# Altium schematic symbol library ArduinoUno_project.SchLib: 32 symbols
Pins are listed as number, name and electrical type; pins without a type are passive.

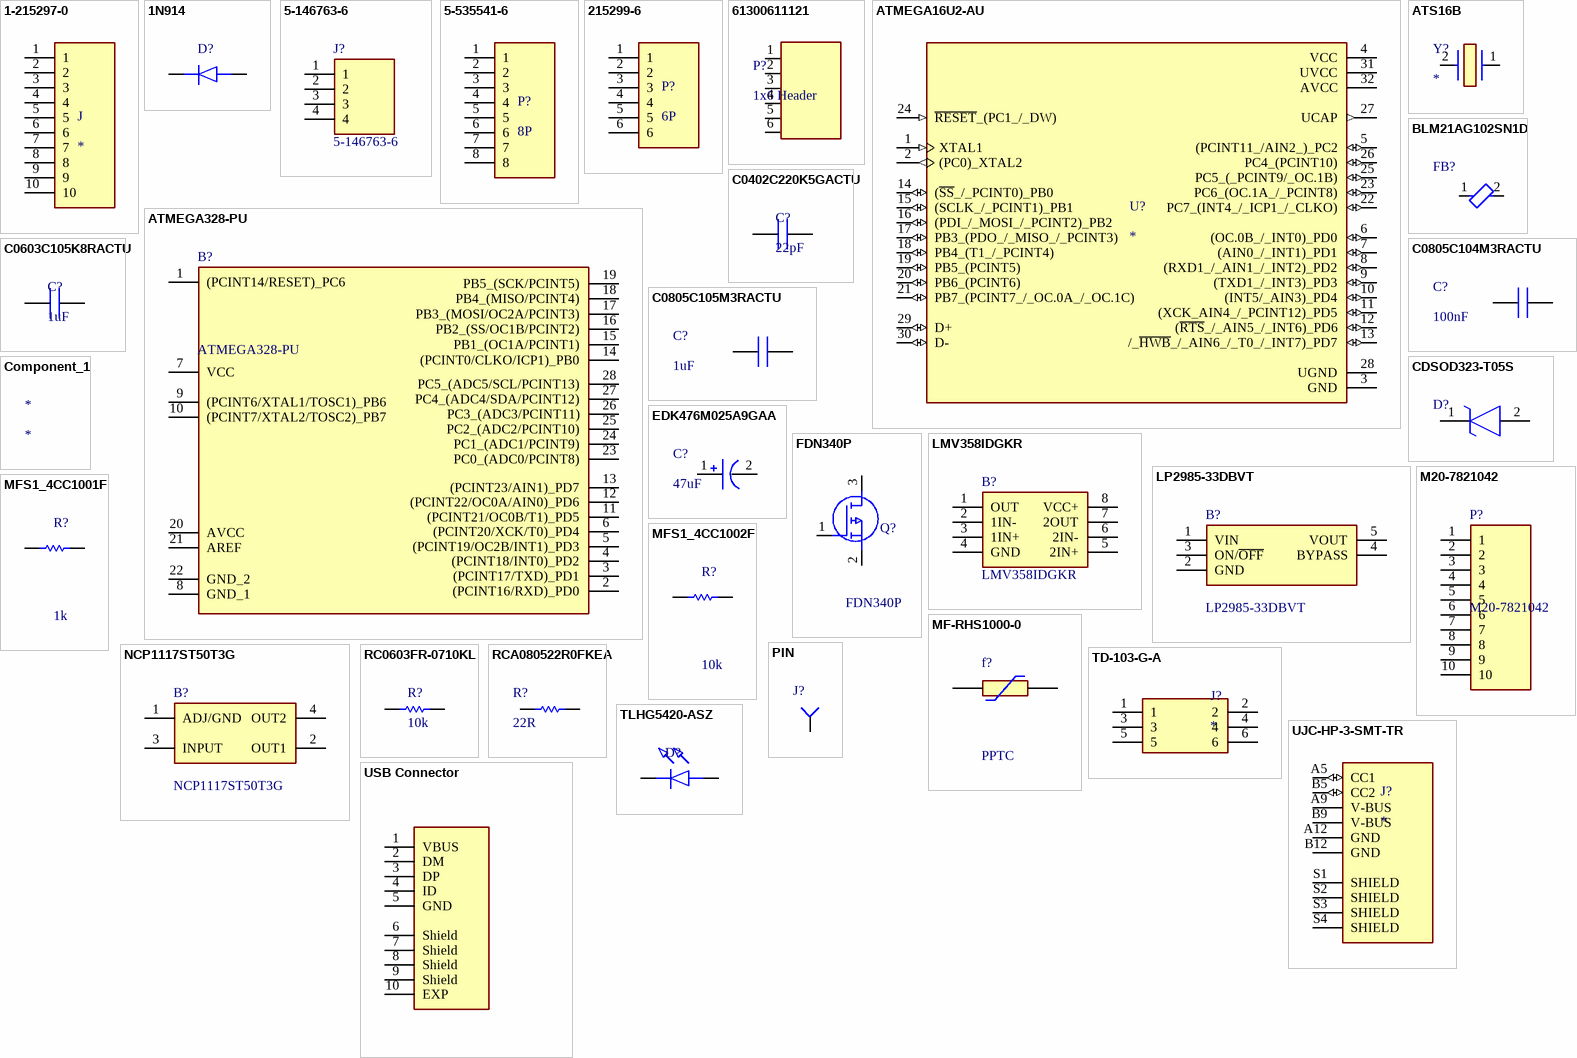
[diagram p0: symbols 1-215297-0 to USB Connector]

## 1-215297-0
designator J
10P HV100 REC CON. TE, 7.0MM; Manufacturer: TE Connectivity; Manufacturer Part Number: 1-215297-0; Price: None; EU_RoHS_Compliance: Compliant; Value: *; TE_purchase_URL: https://www.te.com/usa-en/product-1-215297-0.html?te_bu=Cor&te_type=disp&te_campaign=seda_glo_cor-seda-global-disp-prtnr-fy19-seda-model-bom-cta_sma-317_1&elqCampaignId=32493; Package: None; SnapEDA_Link: https://www.snapeda.com/parts/1-215297-0/TE%20Connectivity%20AMP%20Connectors/view-part/2366147/?ref=snap; Availability: Unavailable
footprint TE_1-215297-0
pins: 1, 2, 3, 4, 5, 6, 7, 8, 9, 10

## 1N914
designator D?  (value not drawn)
Small Signal Diode; Manufacturer: onsemi; Mouser Part Number: 512-1N914; Mouser Price/Stock: https://www.mouser.co.uk/ProductDetail/onsemi-Fairchild/1N914?qs=NSEUUqpg2uCfNuQFcxVZsA%3D%3D; Manufacturer Part Number: 1N914; Datasheet Link: https://www.onsemi.com/pub/Collateral/1N914-D.PDF
footprint DIOAD1068W53L380D172
pins: 1 K, 2 A

## 5-146763-6
designator J?
04 MODII VRT SR CE 100; Manufacturer: TE Connectivity; Geometry.Height: 8.89mm; Mouser Part Number: 571-5-146763-6; Mouser Price/Stock: https://www.mouser.co.uk/ProductDetail/TE-Connectivity/5-146763-6?qs=0lP%252BFeTxe8ZqcqByeRhudw%3D%3D; Manufacturer Part Number: 5-146763-6; Datasheet Link: https://www.te.com/commerce/DocumentDelivery/DDEController?Action=showdoc&DocId=Customer+Drawing%7F146763%7FH4%7Fpdf%7FEnglish%7FENG_CD_146763_H4.pdf%7F5-146763-6
footprint RHDR4W68P0X254_1X4_1016X356X889P
pins: 1, 2, 3, 4

## 5-535541-6
designator P?, comment 8P
Connector Socket Strip RCP 8 POS 2.54mm Solder ST Thru-Hole Gang of Tubes; Manufacturer: TE Connectivity; Manufacturer Part Number: 5-535541-6; SnapEDA_Link: https://www.snapeda.com/parts/5-535541-6/TE%20Connectivity%20AMP%20Connectors/view-part/497141/?ref=snap; Price: None; Availability: Unavailable; Package: None; Value: *
footprint RHDR8W76P0X254_1X8_2032X356X673P
pins: 1, 2, 3, 4, 5, 6, 7, 8

## 215299-6
designator P?, comment 6P
Manufacturer: {'manufacturer': 'TE Connectivity'}; Manufacturer Part Number: 215299-6; Package: None; Value: *; Price: None; Availability: Unavailable
footprint TE_215299-6
pins: 1, 2, 3, 4, 5, 6

## 61300611121
designator P?, comment 1x6 Header
CONN HEADER 6 POS 2.54; Manufacturer: Wurth Electronics; Manufacturer Part Number: 61300611121; Current Rating: 3A; Voltage Rating: 250V; Number of Positions: 6; Gender: Male; Connector Type: Male Pin; Pitch: 0.1inch; Supplier 1: RSComponents; RoHS: Yes; Stock 1: 3940; Pricing 1: 125 = 0,11800, 500 = 0,11400, 2500 = 0,11200, 5000 = 0,10800 (GBP); Mount: Through Hole; Contact Plating: Gold; Contact Material: Copper Alloy,Copper; Housing Material: PBT; Color: Black; Min Operating Temperature: -40°C; Max Operating Temperature: 125°C; Number of Rows: 1; Contact Gender: Male; Packaging: Bulk; Termination: Through Hole; Number of Contacts: 6; Series: WR-PHD; Contact Type: Male Pin; Contact Mating Length: 0.236inch; REACH SVHC: Unknown; Lead Free: Lead Free; RoHS Compliant: Yes; ComponentLink1URL: http://www.mouser.com/ds/2/445/6130xx11121-538006.pdf?src-supplier=Mouser; ComponentLink1Description: http://www.mouser.com/ds/2/445/6130xx11121-538006.pdf?src-supplier=Mouser; ComponentLink2URL: http://www.farnell.com/cad/1737268.pdf?src-supplier=Element14; ComponentLink2Description: http://www.farnell.com/cad/1737268.pdf?src-supplier=Element14; ComponentLink3URL: https://katalog.we-online.de/em/datasheet/6130xx11121.pdf?src-supplier=Digi-Key; ComponentLink3Description: https://katalog.we-online.de/em/datasheet/6130xx11121.pdf?src-supplier=Digi-Key; Supplier Part Number 1: 8281591P
footprint 61300611121 (Pin Header, pitch 2.54 mm, THT, Vertical, single row, 6p)
pins: 1, 2, 3, 4, 5, 6

## ATMEGA16U2-AU
designator U?
AVR AVRÂ® ATmega Microcontroller IC 8-Bit 16MHz 16KB (8K x 16) FLASH 32-TQFP (7x7); Manufacturer: Microchip; Manufacturer Part Number: ATMEGA16U2-AU; Package: TQFP-32 Microchip; Price: None; Check_prices: https://www.snapeda.com/parts/ATMEGA16U2-AU/Microchip/view-part/?ref=eda; Value: *; SnapEDA_Link: https://www.snapeda.com/parts/ATMEGA16U2-AU/Microchip/view-part/?ref=snap; Availability: In Stock; Purchase-URL: https://pricing.snapeda.com/search?q=ATMEGA16U2-AU&ref=eda
footprint QFP80P900X900X120-32N
pins: 1 XTAL1 (in), 2 (PC0)_XTAL2 (out), 3 GND (power), 4 VCC (power), 5 (PCINT11_/AIN2_)_PC2 (io), 6 (OC.0B_/_INT0)_PD0 (io), 7 (AIN0_/_INT1)_PD1 (io), 8 (RXD1_/_AIN1_/_INT2)_PD2 (io), 9 (TXD1_/_INT3)_PD3 (io), 10 (INT5/_AIN3)_PD4 (io), 11 (XCK_AIN4_/_PCINT12)_PD5 (io), 12 (~{RTS}_/_AIN5_/_INT6)_PD6 (io), 13 /_~{HWB}_/_AIN6_/_T0_/_INT7)_PD7 (io), 14 (~{SS}_/_PCINT0)_PB0 (io), 15 (SCLK_/_PCINT1)_PB1 (io), 16 (PDI_/_MOSI_/_PCINT2)_PB2 (io), 17 PB3_(PDO_/_MISO_/_PCINT3) (io), 18 PB4_(T1_/_PCINT4) (io), 19 PB5_(PCINT5) (io), 20 PB6_(PCINT6) (io), 21 PB7_(PCINT7_/_OC.0A_/_OC.1C) (io), 22 PC7_(INT4_/_ICP1_/_CLKO) (io), 23 PC6_(OC.1A_/_PCINT8) (io), 24 ~{RESET}_(PC1_/_DW) (in), 25 PC5_(_PCINT9/_OC.1B) (io), 26 PC4_(PCINT10) (io), 27 UCAP (out), 28 UGND (power), 29 D+ (io), 30 D- (io), 31 UVCC (power), 32 AVCC (power)

## ATMEGA328-PU
designator B?
8-bit Microcontrollers - MCU AVR 32K FLSH 1K EE2K SRAM-20MHz IND; Manufacturer: Microchip; Geometry.Height: 4.572mm; Mouser Part Number: 556-ATMEGA328-PU; Mouser Price/Stock: https://www.mouser.co.uk/ProductDetail/Microchip-Technology/ATMEGA328-PU?qs=lwdSMh1%2FoYJT8tfItQpQtA%3D%3D; Manufacturer Part Number: ATMEGA328-PU; Datasheet Link: https://componentsearchengine.com/Datasheets/1/ATMEGA328-PU.pdf
footprint DIP1016W53P254L3468H457Q28N
pins: 1 (PCINT14/RESET)_PC6, 2 (PCINT16/RXD)_PD0, 3 (PCINT17/TXD)_PD1, 4 (PCINT18/INT0)_PD2, 5 (PCINT19/OC2B/INT1)_PD3, 6 (PCINT20/XCK/T0)_PD4, 7 VCC (power), 8 GND_1, 9 (PCINT6/XTAL1/TOSC1)_PB6, 10 (PCINT7/XTAL2/TOSC2)_PB7, 11 (PCINT21/OC0B/T1)_PD5, 12 (PCINT22/OC0A/AIN0)_PD6, 13 (PCINT23/AIN1)_PD7, 14 (PCINT0/CLKO/ICP1)_PB0, 15 PB1_(OC1A/PCINT1), 16 PB2_(SS/OC1B/PCINT2), 17 PB3_(MOSI/OC2A/PCINT3), 18 PB4_(MISO/PCINT4), 19 PB5_(SCK/PCINT5), 20 AVCC (power), 21 AREF, 22 GND_2, 23 PC0_(ADC0/PCINT8), 24 PC1_(ADC1/PCINT9), 25 PC2_(ADC2/PCINT10), 26 PC3_(ADC3/PCINT11), 27 PC4_(ADC4/SDA/PCINT12), 28 PC5_(ADC5/SCL/PCINT13)

## ATS16B
designator Y?
Crystal or Oscillator; Manufacturer: CTS; Manufacturer Part Number: ATS16B; Datasheet Link: https://componentsearchengine.com/Datasheets/1/ATS16B.pdf; Height: 4.3mm; Mouser Part Number: 774-ATS16B; Mouser Price/Stock: https://www.mouser.co.uk/ProductDetail/CTS-Electronic-Components/ATS16B?qs=tjlMjqRIEYRZOBq8cfzh0Q%3D%3D; Arrow Part Number: ATS16B; Arrow Price/Stock: https://www.arrow.com/en/products/ats16b/cts
footprint ATS16B
pins: 1, 2 CRYSTAL_2

## BLM21AG102SN1D
designator FB?, comment 1 kOhms @ 100MHz  (value not drawn)
MURATA - BLM21AG102SN1D - Ferritperle, 0805 [Metrisch 2012], 1 kohm, 500 mA, Baureihe BLM21A, 0.28 ohm, ± 25% / PN Alternativo: BLM21BD102SN1D; Core Material: Ferrite; Material: Steel,Ferrite; Impedance: 1kR; Max Current Rating: 600mA; Current Rating: 500mA; Max DC Current: 200mA; DC Resistance (DCR): 280mR; Number of Lines: 1; Shielding: Unshielded; Input Capacitance: 850pF; Max Power Dissipation: 3.1W; Rds On Max: 24mR; Drain to Source Voltage (Vdss): 60V; Continuous Drain Current (ID): 20A; Power Dissipation: 19W; Turn-Off Delay Time: 17ns; Turn-On Delay Time: 9ns; Threshold Voltage: 3V; Element Configuration: Single; Gate to Source Voltage (Vgs): 20V; Polarity: N-CHANNEL; Supplier 1: Digi-Key; Supplier Part Number 1: 490-1041-1-ND; Manufacturer: Murata; Manufacturer Part Number: BLM21AG102SN1D; RoHS: Yes; Category: Inductors; Stock 1: 93441; Pricing 1: 1=0,17000, 10=0,14100, 25=0,10960, 50=0,09100, 100=0,07840, 250=0,06272, 500=0,05644, 1000=0,04703 (USD); Case/Package: 0805; Number of Pins: 2; Weight: 0.000194oz; Case Code (Metric): 2012; Case Code (Imperial): 0805; Min Operating Temperature: -55°C; Max Operating Temperature: 125°C; Packaging: Tape and Reel; Frequency: 100MHz; Tolerance: 25%; Package Quantity: 1; Termination: SMD/SMT; Test Frequency: 100MHz; DC Current: 200mA; Military Standard: Not; Number of Circuits: 1; Length: 2mm; Height: 0.85mm; Width: 1.25mm; Depth: 1.25mm; Radiation Hardening: No; REACH SVHC: No SVHC; Lead Free: Lead Free; ComponentLink1URL: https://datasheet.ciiva.com/19454/1845136-19454717.pdf?src-supplier=Jameco; ComponentLink1Description: https://datasheet.ciiva.com/19454/1845136-19454717.pdf?src-supplier=Jameco; ComponentLink2URL: https://datasheet.ciiva.com/18093/getdatasheetpartid-139643-18093010.pdf?src-supplier=Verical; ComponentLink2Description: https://datasheet.ciiva.com/18093/getdatasheetpartid-139643-18093010.pdf?src-supplier=Verical; ComponentLink3URL: https://datasheet.ciiva.com/41449/001172322-da-01-en-drossel-0805-1000r-2-0x1-25mm-4000st-41449636.pdf?src-supplier=Conrad; ComponentLink3Description: https://datasheet.ciiva.com/41449/001172322-da-01-en-drossel-0805-1000r-2-0x1-25mm-4000st-41449636.pdf?src-supplier=Conrad; ComponentLink4URL: https://datasheet.ciiva.com/29347/442432-da-01-en-chip-drossel-0805-1000r-200ma-2-0x1-25mm-29347996.pdf?src-supplier=Conrad; ComponentLink4Description: https://datasheet.ciiva.com/29347/442432-da-01-en-chip-drossel-0805-1000r-200ma-2-0x1-25mm-29347996.pdf?src-supplier=Conrad; ComponentLink5URL: https://datasheet.ciiva.com/25903/l0110s0100blm21a-25903493.pdf?src-supplier=Avnet+Europe; ComponentLink5Description: https://datasheet.ciiva.com/25903/l0110s0100blm21a-25903493.pdf?src-supplier=Avnet+Europe; ComponentLink6URL: https://datasheet.ciiva.com/3081/l0110s0100blm21a-3081640.pdf?src-supplier=Avnet; ComponentLink6Description: https://datasheet.ciiva.com/3081/l0110s0100blm21a-3081640.pdf?src-supplier=Avnet; ComponentLink7URL: https://datasheet.ciiva.com/6212/l0110s0100blm21a-6212345.pdf?src-supplier=Digi-Key; ComponentLink7Description: https://datasheet.ciiva.com/6212/l0110s0100blm21a-6212345.pdf?src-supplier=Digi-Key; ComponentLink8URL: https://datasheet.ciiva.com/6212/l0110s0100blm21a-6212347.pdf?src-supplier=Digi-Key; ComponentLink8Description: https://datasheet.ciiva.com/6212/l0110s0100blm21a-6212347.pdf?src-supplier=Digi-Key; ComponentLink9URL: https://datasheet.ciiva.com/16286/l0110s0100blm21a-16286461.pdf?src-supplier=Future+Electronics; ComponentLink9Description: https://datasheet.ciiva.com/16286/l0110s0100blm21a-16286461.pdf?src-supplier=Future+Electronics; ComponentLink10URL: https://datasheet.ciiva.com/6212/l0110s0100blm21a-6212318.pdf?src-supplier=Digi-Key; ComponentLink10Description: https://datasheet.ciiva.com/6212/l0110s0100blm21a-6212318.pdf?src-supplier=Digi-Key; ComponentLink11URL: https://datasheet.ciiva.com/3082/l0110s0100blm21a-3082728.pdf?src-supplier=Avnet; ComponentLink11Description: https://datasheet.ciiva.com/3082/l0110s0100blm21a-3082728.pdf?src-supplier=Avnet; ComponentLink12URL: https://datasheet.ciiva.com/8021/l0110s0100blm21a-8021548.pdf?src-supplier=Element14; ComponentLink12Description: https://datasheet.ciiva.com/8021/l0110s0100blm21a-8021548.pdf?src-supplier=Element14; ComponentLink13URL: https://datasheet.ciiva.com/8021/l0110s0100blm21a-8021550.pdf?src-supplier=Element14; ComponentLink13Description: https://datasheet.ciiva.com/8021/l0110s0100blm21a-8021550.pdf?src-supplier=Element14; Supplier 2: Digi-Key; Pricing 2: 1 = 0,93000, 10 = 0,82200, 100 = 0,63010, 500 = 0,49808 (USD); Series: -; Number of Elements: 1; Drain to Source Breakdown Voltage: 60V; Drain to Source Resistance: 24mR; RoHS Compliant: Yes; ComponentLink14URL: https://datasheet.ciiva.com/6380/nttfs5826nl-d-6380502.pdf?src-supplier=Digi-Key; ComponentLink14Description: https://datasheet.ciiva.com/6380/nttfs5826nl-d-6380502.pdf?src-supplier=Digi-Key; ComponentLink15URL: https://datasheet.ciiva.com/11166/nttfs5826nl-d-11166227.pdf?src-supplier=Avnet; ComponentLink15Description: https://datasheet.ciiva.com/11166/nttfs5826nl-d-11166227.pdf?src-supplier=Avnet; ComponentLink16URL: https://datasheet.ciiva.com/26145/nttfs5826nl-d-26145731.pdf?src-supplier=Avnet+Europe; ComponentLink16Description: https://datasheet.ciiva.com/26145/nttfs5826nl-d-26145731.pdf?src-supplier=Avnet+Europe; ComponentLink17URL: https://datasheet.ciiva.com/4438/nttfs5826nl-d-97426-4438348.pdf?src-supplier=Mouser; ComponentLink17Description: https://datasheet.ciiva.com/4438/nttfs5826nl-d-97426-4438348.pdf?src-supplier=Mouser; ComponentLink18URL: https://datasheet.ciiva.com/30480/0900766b8120607b-30480146.pdf?src-supplier=RSComponents; ComponentLink18Description: https://datasheet.ciiva.com/30480/0900766b8120607b-30480146.pdf?src-supplier=RSComponents; ComponentLink19URL: https://datasheet.ciiva.com/6380/nttfs5826nl-d-6380508.pdf?src-supplier=Digi-Key; ComponentLink19Description: https://datasheet.ciiva.com/6380/nttfs5826nl-d-6380508.pdf?src-supplier=Digi-Key
footprint BLM21
pins: 1, 2

## C0402C220K5GACTU
designator C?, comment 22pF
CAP CER 22PF 50V C0G/NP0 0402; Manufacturer: KEMET; Manufacturer Part Number: C0402C220K5GACTU; Dielectric Material: Ceramic; Tolerance: 10%; Dielectric: C0G; Dissipation Factor: 0.1%; Supplier 1: Digi-Key; Supplier Part Number 1: 399-7775-1-ND; RoHS: Yes; Category: Ceramic Capacitors; Stock 1: 2121934; Pricing 1: 1=0,10000, 10=0,02100, 50=0,01160, 100=0,00950, 500=0,00678, 1000=0,00532, 2500=0,00484, 5000=0,00445 (USD); Mount: Surface Mount; Case/Package: 0402; Case Code (Metric): 1005; Case Code (Imperial): 0402; Min Operating Temperature: -55°C; Max Operating Temperature: 125°C; Package Quantity: 1; Capacitance: 22pF; Voltage Rating: 50V; Packaging: Tape and Reel; Voltage Rating (DC): 50V; Termination: SMD/SMT; Length: 1mm; Height: 0.5mm; Width: 0.02inch; Thickness: 0.022inch; Lead Pitch: 0.3mm; Depth: 0.5mm; Radiation Hardening: No; REACH SVHC: No SVHC; Lead Free: Lead Free; ComponentLink1URL: https://datasheet.ciiva.com/18192/getdatasheetpartid-362104-18192458.pdf?src-supplier=Verical; ComponentLink1Description: https://datasheet.ciiva.com/18192/getdatasheetpartid-362104-18192458.pdf?src-supplier=Verical; ComponentLink2URL: https://datasheet.ciiva.com/6874/1828801-6874332.pdf?src-supplier=Newark; ComponentLink2Description: https://datasheet.ciiva.com/6874/1828801-6874332.pdf?src-supplier=Newark; ComponentLink3URL: https://datasheet.ciiva.com/5423/kem-c1003-c0g-smd-356956-5423869.pdf?src-supplier=Mouser; ComponentLink3Description: https://datasheet.ciiva.com/5423/kem-c1003-c0g-smd-356956-5423869.pdf?src-supplier=Mouser
footprint C0402
pins: 1, 2

## C0603C105K8RACTU
designator C?, comment 1uF
1µF ±10% 10V Ceramic Capacitor X7R 0603 (1608 Metric); Manufacturer: KEMET; Manufacturer Part Number: C0603C105K8RACTU; Dissipation Factor: 5%; Supplier 1: Digi-Key; Supplier Part Number 1: 399-11133-1-ND; RoHS: Yes; Category: Ceramic Capacitors; Stock 1: 357758; Pricing 1: 1=0,10000, 10=0,06100, 50=0,03340, 100=0,02730, 500=0,01948, 1000=0,01531 (USD); Mount: Surface Mount; Case/Package: 0603; Case Code (Imperial): 0603; Case Code (Metric): 1608; Contact Plating: Tin,Matte; Dielectric Material: Ceramic; Min Operating Temperature: -55°C; Max Operating Temperature: 125°C; Packaging: Tape and Reel; Capacitance: 1uF; Package Quantity: 1; Voltage Rating: 10V; Voltage Rating (DC): 10V; Tolerance: 10%; Dielectric: X7R; Termination: SMD/SMT; Length: 1.6mm; Height: 0.8mm; Width: 0.8mm; Thickness: 0.035inch; Depth: 0.8mm; Radiation Hardening: No; REACH SVHC: No SVHC; ComponentLink1URL: https://datasheet.ciiva.com/18192/getdatasheetpartid-212378-18192743.pdf?src-supplier=Verical; ComponentLink1Description: https://datasheet.ciiva.com/18192/getdatasheetpartid-212378-18192743.pdf?src-supplier=Verical
footprint C0603 (Footprint not found)
pins: 1, 2

## C0805C104M3RACTU
designator C?, comment 100nF
Cap Ceramic 0.1uF 25V X7R 20% SMD 0805 125°C Paper T/R; Manufacturer: KEMET; Manufacturer Part Number: C0805C104M3RACTU; Dissipation Factor: 5%; Supplier 1: Digi-Key; RoHS: Yes; Stock 1: 190801; Pricing 1: 1 = 0,10000, 10 = 0,06200, 50 = 0,03360, 100 = 0,02750, 500 = 0,01964, 1000 = 0,01543 (USD); Mount: Surface Mount; Case/Package: 0805; Case Code (Metric): 2012; Case Code (Imperial): 0805; Dielectric Material: Ceramic; Min Operating Temperature: -55°C; Max Operating Temperature: 125°C; Package Quantity: 1; Capacitance: 100nF; Voltage Rating: 25V; Tolerance: 20%; Packaging: Tape and Reel; Voltage Rating (DC): 25V; Dielectric: X7R; Termination: SMD/SMT; Voltage: 25V; Series: C0805C; Construction: Flat; Length: 2mm; Width: 0.049inch; Height: 0.9mm; Thickness: 0.035inch; Lead Pitch: 0.75mm; Depth: 1.25mm; Radiation Hardening: No; REACH SVHC: No SVHC; ComponentLink1URL: http://www.farnell.com/datasheets/2746330.pdf?src-supplier=Farnell; ComponentLink1Description: http://www.farnell.com/datasheets/2746330.pdf?src-supplier=Farnell; ComponentLink2URL: https://www.alliedelec.com/m/d/6f3b5eb83d09db50ed28bdc730567b33.pdf?src-supplier=Allied+Electronics; ComponentLink2Description: https://www.alliedelec.com/m/d/6f3b5eb83d09db50ed28bdc730567b33.pdf?src-supplier=Allied+Electronics; ComponentLink3URL: http://uk.rs-online.com/webdocs/13da/0900766b813daa05.pdf?src-supplier=RSComponents; ComponentLink3Description: http://uk.rs-online.com/webdocs/13da/0900766b813daa05.pdf?src-supplier=RSComponents; ComponentLink4URL: http://uk.rs-online.com/webdocs/13da/0900766b813da9ff.pdf?src-supplier=RSComponents; ComponentLink4Description: http://uk.rs-online.com/webdocs/13da/0900766b813da9ff.pdf?src-supplier=RSComponents; ComponentLink5URL: https://www.alliedelec.com/m/d/e7aa2b5497e2375e4ffc0e8be19e16e2.pdf?src-supplier=Allied+Electronics; ComponentLink5Description: https://www.alliedelec.com/m/d/e7aa2b5497e2375e4ffc0e8be19e16e2.pdf?src-supplier=Allied+Electronics; ComponentLink6URL: http://www.jameco.com/Jameco/Products/ProdDS/1566487.pdf?src-supplier=Jameco; ComponentLink6Description: http://www.jameco.com/Jameco/Products/ProdDS/1566487.pdf?src-supplier=Jameco; ComponentLink7URL: http://www.mouser.com/ds/2/212/KEM_C1002_X7R_SMD-1102033.pdf?src-supplier=Mouser; ComponentLink7Description: http://www.mouser.com/ds/2/212/KEM_C1002_X7R_SMD-1102033.pdf?src-supplier=Mouser; ComponentLink8URL: http://components.arrow.com/part/dataview/2091097S3491315N7429?src-supplier=Arrow+Electronics; ComponentLink8Description: http://components.arrow.com/part/dataview/2091097S3491315N7429?src-supplier=Arrow+Electronics; ComponentLink9URL: http://components.arrow.com/part/dataview/0323_00178100?src-supplier=Arrow+Europe; ComponentLink9Description: http://components.arrow.com/part/dataview/0323_00178100?src-supplier=Arrow+Europe; ComponentLink10URL: https://api.kemet.com/component-edge/download/datasheet/C0805C104M3RACTU.pdf?src-supplier=Digi-Key; ComponentLink10Description: https://api.kemet.com/component-edge/download/datasheet/C0805C104M3RACTU.pdf?src-supplier=Digi-Key; ComponentLink11URL: http://www.farnell.com/datasheets/2746330.pdf?src-supplier=Newark; ComponentLink11Description: http://www.farnell.com/datasheets/2746330.pdf?src-supplier=Newark; ComponentLink12URL: http://www.farnell.com/datasheets/1828800.pdf?src-supplier=Newark; ComponentLink12Description: http://www.farnell.com/datasheets/1828800.pdf?src-supplier=Newark; ComponentLink13URL: http://capacitoredge.kemet.com/capedge2/DataSheet?pn=C0805C104M3RACTU&src-supplier=Avnet; ComponentLink13Description: http://capacitoredge.kemet.com/capedge2/DataSheet?pn=C0805C104M3RACTU&src-supplier=Avnet; ComponentLink14URL: http://www.farnell.com/datasheets/2746330.pdf?src-supplier=Element14; ComponentLink14Description: http://www.farnell.com/datasheets/2746330.pdf?src-supplier=Element14; Supplier Part Number 1: 399-C0805C104M3RAC7800CT-ND
footprint C0805 (Footprint not found)
pins: 1, 2

## C0805C105M3RACTU
designator C?, comment 1uF
Multilayer Ceramic Capacitors MLCC - SMD/SMT 25V 1uF X7R 0805 20%; Manufacturer: KEMET; Manufacturer Part Number: C0805C104M3RACTU; Dissipation Factor: 5%; Supplier 1: Digi-Key; RoHS: Yes; Stock 1: 190801; Pricing 1: 1 = 0,10000, 10 = 0,06200, 50 = 0,03360, 100 = 0,02750, 500 = 0,01964, 1000 = 0,01543 (USD); Mount: Surface Mount; Case/Package: 0805; Case Code (Metric): 2012; Case Code (Imperial): 0805; Dielectric Material: Ceramic; Min Operating Temperature: -55°C; Max Operating Temperature: 125°C; Package Quantity: 1; Capacitance: 1uF; Voltage Rating: 25V; Tolerance: 20%; Packaging: Tape and Reel; Voltage Rating (DC): 25V; Dielectric: X7R; Termination: SMD/SMT; Voltage: 25V; Series: C0805C; Construction: Flat; Length: 2mm; Width: 0.049inch; Height: 0.9mm; Thickness: 0.035inch; Lead Pitch: 0.75mm; Depth: 1.25mm; Radiation Hardening: No; REACH SVHC: No SVHC; ComponentLink1URL: http://www.farnell.com/datasheets/2746330.pdf?src-supplier=Farnell; ComponentLink1Description: http://www.farnell.com/datasheets/2746330.pdf?src-supplier=Farnell; ComponentLink2URL: https://www.alliedelec.com/m/d/6f3b5eb83d09db50ed28bdc730567b33.pdf?src-supplier=Allied+Electronics; ComponentLink2Description: https://www.alliedelec.com/m/d/6f3b5eb83d09db50ed28bdc730567b33.pdf?src-supplier=Allied+Electronics; ComponentLink3URL: http://uk.rs-online.com/webdocs/13da/0900766b813daa05.pdf?src-supplier=RSComponents; ComponentLink3Description: http://uk.rs-online.com/webdocs/13da/0900766b813daa05.pdf?src-supplier=RSComponents; ComponentLink4URL: http://uk.rs-online.com/webdocs/13da/0900766b813da9ff.pdf?src-supplier=RSComponents; ComponentLink4Description: http://uk.rs-online.com/webdocs/13da/0900766b813da9ff.pdf?src-supplier=RSComponents; ComponentLink5URL: https://www.alliedelec.com/m/d/e7aa2b5497e2375e4ffc0e8be19e16e2.pdf?src-supplier=Allied+Electronics; ComponentLink5Description: https://www.alliedelec.com/m/d/e7aa2b5497e2375e4ffc0e8be19e16e2.pdf?src-supplier=Allied+Electronics; ComponentLink6URL: http://www.jameco.com/Jameco/Products/ProdDS/1566487.pdf?src-supplier=Jameco; ComponentLink6Description: http://www.jameco.com/Jameco/Products/ProdDS/1566487.pdf?src-supplier=Jameco; ComponentLink7URL: http://www.mouser.com/ds/2/212/KEM_C1002_X7R_SMD-1102033.pdf?src-supplier=Mouser; ComponentLink7Description: http://www.mouser.com/ds/2/212/KEM_C1002_X7R_SMD-1102033.pdf?src-supplier=Mouser; ComponentLink8URL: http://components.arrow.com/part/dataview/2091097S3491315N7429?src-supplier=Arrow+Electronics; ComponentLink8Description: http://components.arrow.com/part/dataview/2091097S3491315N7429?src-supplier=Arrow+Electronics; ComponentLink9URL: http://components.arrow.com/part/dataview/0323_00178100?src-supplier=Arrow+Europe; ComponentLink9Description: http://components.arrow.com/part/dataview/0323_00178100?src-supplier=Arrow+Europe; ComponentLink10URL: https://api.kemet.com/component-edge/download/datasheet/C0805C104M3RACTU.pdf?src-supplier=Digi-Key; ComponentLink10Description: https://api.kemet.com/component-edge/download/datasheet/C0805C104M3RACTU.pdf?src-supplier=Digi-Key; ComponentLink11URL: http://www.farnell.com/datasheets/2746330.pdf?src-supplier=Newark; ComponentLink11Description: http://www.farnell.com/datasheets/2746330.pdf?src-supplier=Newark; ComponentLink12URL: http://www.farnell.com/datasheets/1828800.pdf?src-supplier=Newark; ComponentLink12Description: http://www.farnell.com/datasheets/1828800.pdf?src-supplier=Newark; ComponentLink13URL: http://capacitoredge.kemet.com/capedge2/DataSheet?pn=C0805C104M3RACTU&src-supplier=Avnet; ComponentLink13Description: http://capacitoredge.kemet.com/capedge2/DataSheet?pn=C0805C104M3RACTU&src-supplier=Avnet; ComponentLink14URL: http://www.farnell.com/datasheets/2746330.pdf?src-supplier=Element14; ComponentLink14Description: http://www.farnell.com/datasheets/2746330.pdf?src-supplier=Element14; Supplier Part Number 1: 399-C0805C104M3RAC7800CT-ND
footprint C0805 (Footprint not found)
pins: 1, 2

## CDSOD323-T05S
designator D?  (value not drawn)
TVS Diode (Uni-directional); Manufacturer: Bourns; Manufacturer Part Number: CDSOD323-T05S; Datasheet Link: http://www.bourns.com/docs/Product-Datasheets/CDSOD323-TxxSC.pdf; Height: 1.14mm; Mouser Part Number: 652-CDSOD323-T05S; Mouser Price/Stock: https://www.mouser.co.uk/ProductDetail/Bourns/CDSOD323-T05S?qs=6S5Watp5UnKwEEYVMBfMmA%3D%3D; Arrow Part Number: CDSOD323-T05S; Arrow Price/Stock: https://www.arrow.com/en/products/cdsod323-t05s/bourns?region=nac
footprint SOD2513X114N
pins: 1 K, 2 A

## Component_1
designator *

## EDK476M025A9GAA
designator C?, comment 47uF
Cap Aluminum 47uF 25V 20% (6.3 X 5.4mm) SMD 70mA 2000 hr 85°C T/R -    PN Alternativo : EDK476M025A9GAA; Manufacturer: KEMET; Life (Hours): 2000Hour; Supplier 1: Mouser; Manufacturer Part Number: EDK476M025A9GAA; RoHS: Yes; Stock 1: 8213; Pricing 1: 1 = 0,39000, 10 = 0,19000, 50 = 0,19000, 100 = 0,16300, 1000 = 0,10200, 10000 = 0,08100 (USD); Mount: Surface Mount,PCB; Case/Package: Radial; Min Operating Temperature: -40°C; Max Operating Temperature: 85°C; Capacitance: 47uF; Tolerance: 20%; Ripple Current: 70mA; Voltage Rating: 25V; Packaging: Tape and Reel; Package Quantity: 1; Voltage Rating (DC): 25V; Termination: SMD/SMT; Series: EDK; Construction: Cylindrical; Ripple Current (AC): 70mA; Diameter: 6.3mm; Length: 5.5mm; Height: 5.4mm; Height - Seated (Max): 0.217inch; Radiation Hardening: No; RoHS Compliant: Yes; REACH SVHC: No SVHC; ComponentLink1URL: https://datasheet.ciiva.com/5365/kem-a4001-edk-535350-5365071.pdf?src-supplier=Mouser; ComponentLink1Description: https://datasheet.ciiva.com/5365/kem-a4001-edk-535350-5365071.pdf?src-supplier=Mouser; Supplier Part Number 1: 80-EDK476M025A9GAA
footprint CAPAE660X565N
pins: 1, 2

## FDN340P
designator Q?
Trans MOSFET P-CH 20V 2A 3-Pin SuperSOT; Manufacturer: onsemi; Geometry.Height: 1.12mm; Mouser Part Number: 512-FDN340P; Mouser Price/Stock: https://www.mouser.co.uk/ProductDetail/onsemi-Fairchild/FDN340P?qs=AMp2PTjoga9dhzFXRaqTZw%3D%3D; Manufacturer Part Number: FDN340P; Datasheet Link: https://www.onsemi.com/pub/Collateral/FDN340P-D.PDF
footprint SOT95P237X112-3N
pins: 1 G, 2 S, 3 D

## LMV358IDGKR
designator B?
OP Amp Dual GP R-R O/P 5.5V 8-Pin MSOP Texas Instruments LMV358IDGKR, Dual Op Amp, 1MHz CMOS, Rail to Rail, 3 V, 5 V, 8-Pin MSOP; Geometry.Height: 1.1mm; Mouser Part Number: 595-LMV358IDGKR; Mouser Price/Stock: https://www.mouser.co.uk/ProductDetail/Texas-Instruments/LMV358IDGKR?qs=rgxfVHSNRPXxzk3brtXqQw%3D%3D; Manufacturer: Texas Instruments; Manufacturer Part Number: LMV358IDGKR; Datasheet Link: http://www.ti.com/lit/ds/symlink/lmv358.pdf
footprint SOP65P490X110-8N
pins: 1 OUT, 2 1IN-, 3 1IN+, 4 GND, 5 2IN+, 6 2IN-, 7 2OUT, 8 VCC+

## LP2985-33DBVT
designator B?
150-mA LOW-NOISE LOW-DROPOUT REGULATOR WITH SHUTDOWN; Manufacturer: Texas Instruments; Geometry.Height: 1.45mm; Mouser Part Number: 595-LP2985-33DBVT; Mouser Price/Stock: https://www.mouser.co.uk/ProductDetail/Texas-Instruments/LP2985-33DBVT?qs=paYhMW8qfivCywxvLCGbYQ%3D%3D; Manufacturer Part Number: LP2985-33DBVT; Datasheet Link: http://www.ti.com/lit/gpn/lp2985
footprint SOT95P280X145-5N
pins: 1 VIN, 2 GND, 3 ON/~{OFF}, 4 BYPASS, 5 VOUT

## M20-7821042
designator P?
2.54mm (0.1") Pitch SIL Vertical Throughboard Socket Assembly, selective gold + tin, 10 contacts; Manufacturer: Harwin; Geometry.Height: 8.65mm; Mouser Part Number: 855-M20-7821042; Mouser Price/Stock: https://www.mouser.co.uk/ProductDetail/Harwin/M20-7821042?qs=Jph8NoUxIfUg6RlpQXBvqA%3D%3D; Manufacturer Part Number: M20-7821042; Datasheet Link: https://cdn.harwin.com/pdfs/M20-782.pdf
footprint SHDR10W70P0X254_1X10_2580X250X865P
pins: 1, 2, 3, 4, 5, 6, 7, 8, 9, 10

## MF-RHS1000-0
designator f?, comment PPTC
PTC 10.0A 16V RADIAL LEADED HI-TEMP; Manufacturer: Bourns; Manufacturer Part Number: MF-RHS1000-0; Geometry.Height: 27.9mm; Mouser Part Number: 652-MF-RHS1000-0; Mouser Price/Stock: https://www.mouser.co.uk/ProductDetail/Bourns/MF-RHS1000-0?qs=mELouGlnn3f3cOBjSincOA%3D%3D; Datasheet Link: *
footprint MFRHS10000
pins: 1, 2

## MFS1_4CC1001F
designator R?, comment 1k
KOA Axial Metal Film Resistor 1k +/-1% 0.25W +/-50ppm/C; Manufacturer: KOA Speer; Manufacturer Part Number: MFS1/4CC1001F; Mouser Part Number: 660-MFS1/4CC1001F; Mouser Price/Stock: https://www.mouser.co.uk/ProductDetail/KOA-Speer/MFS1-4CC1001F?qs=W1HJaynCbQwggh46CLL3yw%3D%3D; Datasheet Link: https://www.koaspeer.com/catimages/Products/MF-MFS-RK/MF-MFS-RK.pdf
footprint RESAD1075W45L335D185
pins: 1, 2

## MFS1_4CC1002F
designator R?, comment 10k
Fixed Resistor, Metal Film, 0.25W, 10000ohm, 250V, 1% +/-Tol, 50ppm/Cel, Through Hole Mount; Manufacturer: KOA Speer; Manufacturer Part Number: MFS1/4CC1001F; Mouser Part Number: 660-MFS1/4CC1001F; Mouser Price/Stock: https://www.mouser.co.uk/ProductDetail/KOA-Speer/MFS1-4CC1001F?qs=W1HJaynCbQwggh46CLL3yw%3D%3D; Datasheet Link: https://www.koaspeer.com/catimages/Products/MF-MFS-RK/MF-MFS-RK.pdf
footprint RESAD1075W45L335D185
pins: 1, 2

## NCP1117ST50T3G
designator B?
ON SEMICONDUCTOR - NCP1117ST50T3G - LDO, REG, 20VIN, 1A, 5V, 1%, SOT223-3; Manufacturer: onsemi; Geometry.Height: 1.8mm; Mouser Part Number: 863-NCP1117ST50T3G; Mouser Price/Stock: https://www.mouser.co.uk/ProductDetail/onsemi/NCP1117ST50T3G?qs=Gev%252BmEvV0ib6dijy6U0dhQ%3D%3D; Manufacturer Part Number: NCP1117ST50T3G; Datasheet Link: http://www.onsemi.com/pub/Collateral/NCP1117-D.PDF
footprint SOT230P700X180-4N
pins: 1 ADJ/GND, 2 OUT1, 3 INPUT, 4 OUT2

## PIN
designator J?, comment Function  (value not drawn)  (no BOM)
footprint Pin - 1 (Test point pad)
pins: 1

## RC0603FR-0710KL
designator R?, comment 10k
10 kOhms ±1% 0.1W, 1/10W Chip Resistor 0603 (1608 Metric)  Thick Film; Manufacturer: Yageo; Manufacturer Part Number: RC0603FR-0710KL; Resistance: 10kR; Temperature Coefficient: 100ppm/°C; Voltage Rating (DC): 50V; Power Rating: 100mW; Voltage Rating: 75V; Supplier 1: Digi-Key; RoHS: Yes; Stock 1: 18983194; Pricing 1: 1 = 0,10000, 10 = 0,02100, 100 = 0,00850, 1000 = 0,00382, 2500 = 0,00331 (USD); Case/Package: 0603; Number of Pins: 2; Weight: 7.1E-05oz; Case Code (Imperial): 0603; Case Code (Metric): 1608; Min Operating Temperature: -55°C; Max Operating Temperature: 155°C; Packaging: Tape and Reel; Tolerance: 1%; Resistor Type: Thick Film; Termination: SMD/SMT; Length: 1.6mm; Height: 0.45mm; Width: 0.8mm; Depth: 0.8mm; Lead Pitch: 0.3mm; REACH SVHC: No SVHC; Lead Free: Lead Free; Military Standard: Not; ComponentLink1URL: https://datasheet.ciiva.com/7660/38590-7660789.pdf?src-supplier=Element14; ComponentLink1Description: https://datasheet.ciiva.com/7660/38590-7660789.pdf?src-supplier=Element14; ComponentLink2URL: https://datasheet.ciiva.com/15189/getdatasheetpartid-409289-15189591.pdf?src-supplier=Verical; ComponentLink2Description: https://datasheet.ciiva.com/15189/getdatasheetpartid-409289-15189591.pdf?src-supplier=Verical; ComponentLink3URL: https://datasheet.ciiva.com/46440/1868787-46440891.pdf?src-supplier=Element14; ComponentLink3Description: https://datasheet.ciiva.com/46440/1868787-46440891.pdf?src-supplier=Element14; ComponentLink4URL: https://datasheet.ciiva.com/7983/443971-7983596.pdf?src-supplier=Element14; ComponentLink4Description: https://datasheet.ciiva.com/7983/443971-7983596.pdf?src-supplier=Element14; ComponentLink5URL: https://datasheet.ciiva.com/7746/1738695-7746239.pdf?src-supplier=Element14; ComponentLink5Description: https://datasheet.ciiva.com/7746/1738695-7746239.pdf?src-supplier=Element14; ComponentLink6URL: https://datasheet.ciiva.com/22747/443971-22747519.pdf?src-supplier=Element14; ComponentLink6Description: https://datasheet.ciiva.com/22747/443971-22747519.pdf?src-supplier=Element14; Supplier Part Number 1: 311-10.0KHRCT-ND
footprint RC0603 (Footprint not found)
pins: 1, 2

## RCA080522R0FKEA
designator R?, comment 22R
Thick Film Resistors - SMD 22ohms 1% 100ppm; Manufacturer: Vishay; Manufacturer Part Number: RCA080522R0FKEA; Datasheet Link: https://www.mouser.se/datasheet/2/427/rcae3-1761931.pdf; Height: 0.5mm; Mouser Part Number: 71-RCA080522R0FKEA; Mouser Price/Stock: https://www.mouser.co.uk/ProductDetail/Vishay-Draloric/RCA080522R0FKEA?qs=AvgxZrxb8y2flqwx8oksMg%3D%3D
footprint R0805
pins: 1, 2

## TD-103-G-A
designator J?
Connecteur Embase Trou traversant 6 positions 0,100po (2,54mm); Manufacturer: Samtec Inc.; Manufacturer Part Number: TD-103-G-A; SnapEDA_Link: https://www.snapeda.com/parts/TD-103-G-A/Samtec+Inc./view-part/?ref=snap; Package: None; Value: *; Check_prices: https://www.snapeda.com/parts/TD-103-G-A/Samtec+Inc./view-part/?ref=eda
footprint SAMTEC_TD-103-G-A
pins: 1, 2, 3, 4, 5, 6

## TLHG5420-ASZ
designator D?  (value not drawn)
Standard LEDs - Through Hole 5MM LED GREEN TINT. DIFFused with Standoff; Manufacturer: Vishay; Geometry.Height: 12.8mm; Mouser Part Number: 78-TLHG5420-ASZ; Mouser Price/Stock: https://www.mouser.co.uk/ProductDetail/Vishay-Siliconix/TLHG5420-ASZ?qs=M%2FWrVUahkW9Iv5EBNpgqMA%3D%3D; Manufacturer Part Number: TLHG5420-ASZ; Datasheet Link: https://www.vishay.com/docs/86335/tlhg542_tlhg642.pdf
footprint TLHG5420ASZ
pins: 1 K, 2 A

## UJC-HP-3-SMT-TR
designator J?
Type C, 3 A, Right Angle, Surface Mount (SMT), Power-Only USB Receptacle; Manufacturer Part Number: UJC-HP-3-SMT-TR; Value: *; Availability: Unavailable; Price: None; Package: None
footprint CUI_UJC-HP-3-SMT-TR
pins: A5 CC1 (io), A9 V-BUS (power), A12 GND (power), B5 CC2 (io), B9 V-BUS (power), B12 GND (power), S1 SHIELD, S2 SHIELD, S3 SHIELD, S4 SHIELD

## USB Connector
designator J?, comment ZX62RD-AB-5P8(30)
CONN RCPT USB2.0 MICRO AB SMD RA; Manufacturer: Hirose Connector; Number of Contacts: 5; Gender: Receptacle; Connector Type: USB; Packaging: Tape and Reel; Contact Material: Copper Alloy; Mount: Surface Mount; USB Standard: USB 2.0; RoHS Compliant: Yes; Contact Plating: Gold; Orientation: Right Angle; Lead Free: Lead Free; Manufacturer Part Number: ZX62RD-AB-5P8(30)
footprint FP-ZX62RD-AB-5P8_30-MFG
pins: 1 VBUS, 2 DM, 3 DP, 4 ID, 5 GND, 6 Shield, 7 Shield, 8 Shield, 9 Shield, 10 EXP